# EAGLE library part LMR62421XSD (library strasys_standard)
IC, SIMPLE SWITCHER 24Vout, 2.1A Step-Up Voltage Regulator in WSON-6
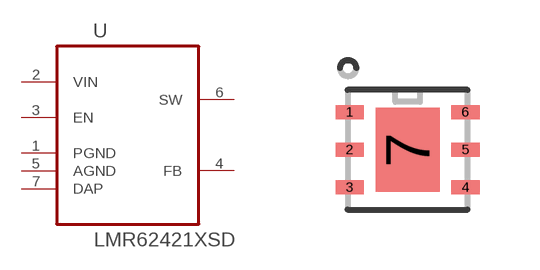
[diagram p4: symbol with the pads of DFN300X300X80-7N; footprint DFN300X300X80-7N]

Designator prefix U

## LMR62421XSD (MPN: LMR62421XSD; OC_FARNELL: 2064679; OC_NEWARK: 75T7402; PACKAGE: WSON-6; SUPPLIER: TEXAS INSTRUMENTS)  [DFN300X300X80-7N]
1  PGND  pas
2  VIN  pwr
3  EN  in
4  FB  in
5  AGND  pas
6  SW  pas
7  DAP  pas

## Footprint DFN300X300X80-7N (pad centres in mm)
smd 0.711 x 0.356: 1 -1.448,0.94; 2 -1.448,0; 3 -1.448,-0.94; 4 1.448,-0.94; 5 1.448,0; 6 1.448,0.94
smd 1.6 x 2.108: 7 0,0